# Altium footprint library libreriaPcb.PcbLib: 683 footprints (part 42 of 44)
Each footprint in its own frame and in the unit in brackets; x right, y up, seen from the top. Pads: shape width x height; smd on the part's side, far side on the other; paste and mask are expansions set on the pad; w line width, h text height; cw(c..) or ccw(c..) is an arc to the next point about the centre after c.
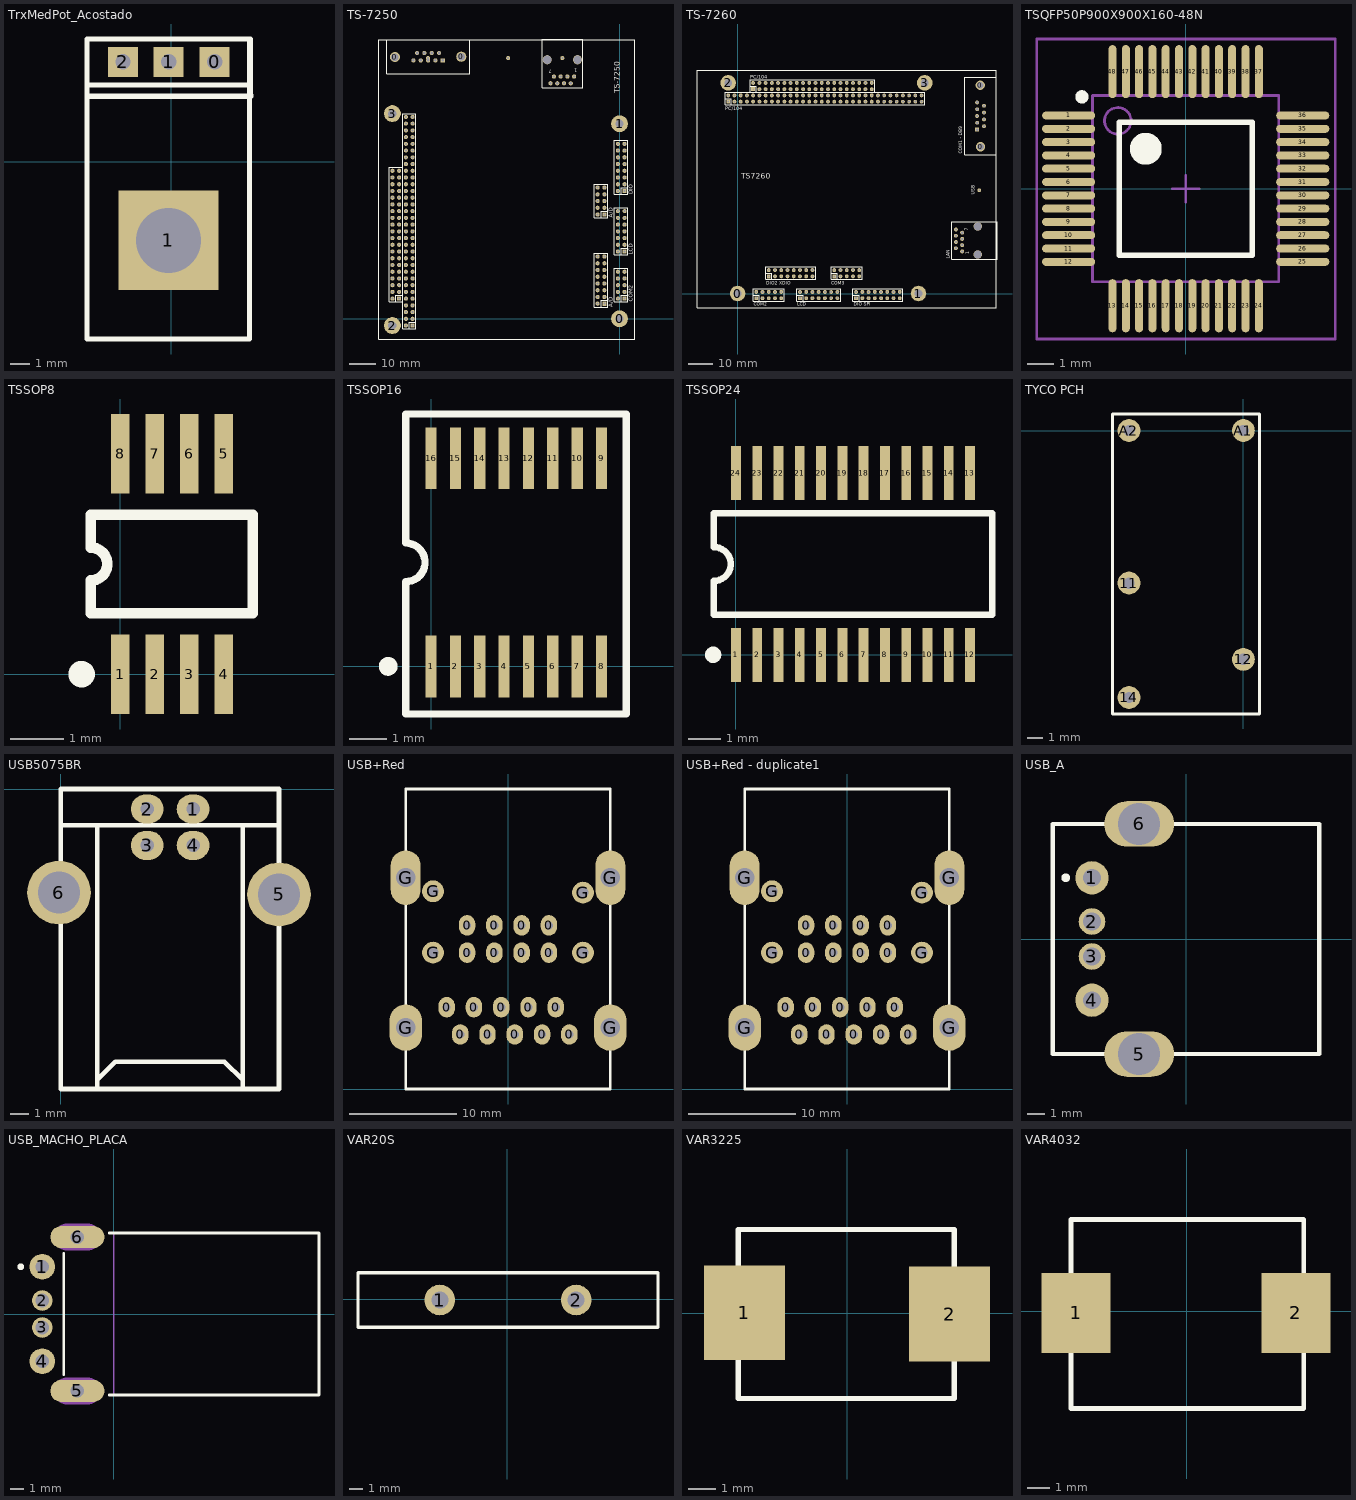
[diagram p41: the footprints below, top view; thin cyan lines are the x and y axes]

## TrxMedPot_Acostado [mm]
pads (4):
  rect 1.5x1.5 hole 0.762: 0(2.174,5.016) 1(-0.136,5.016) 2(-2.436,5.016)
  rect 5x5 hole 3.27: 1(-0.146,-3.951)
Top Overlay:
  lines w0.254: 3.918,6.156 3.918,-8.904 -4.23,-8.904 -4.23,6.156 ; -4.23,3.846 -4.23,6.156 ; -4.23,3.846 -4.23,3.536 -4.22,3.286 3.99,3.286 3.98,3.536 3.98,3.846 ; -4.23,3.846 3.98,3.846 ; -4.23,6.156 3.974,6.156 3.98,6.162 3.98,3.846
3D body: height 1, standoff 0, extent -0.625,2.35 0.375,5.35
3D body: height 1, standoff 0, extent 1.675,2.35 2.675,5.35
3D body: height 1, standoff 0, extent -2.925,2.35 -1.925,5.35
3D body: height 2, standoff 0, extent -4.088,-8.85 3.788,2.35
3D body: height 2.1, standoff 0, extent -2.146,-5.95 1.854,-1.951

## TS-7250 [mil]
pads (204):
  round 150 hole 110: 0(-3338,3890) 0(-2352,3895)
  round 250 hole 125: 0(0,0) 1(0,2900) 2(-3375,-100) 3(-3375,3050)
  rect 62x62 hole 28: 1(-3275,300) 1(-3075,-100) 1(-225,225) 1(-225,1550) 1(75,300) 1(75,1000) 1(75,1900)
  rect 62x62 hole 38: 1(-2627,3840)
  round 62 hole 35: 1(-675,3600) 2(-725,3500) 3(-775,3600) 4(-825,3500) 5(-875,3600) 6(-925,3500) 7(-975,3600) 8(-1025,3500)
  round 62 hole 28: 2(-3375,300) 2(-3175,-100) 2(-325,225) 2(-325,1550) 2(-25,300) 2(-25,1000) 2(-25,1900) 3(-3275,400) 3(-3075,0) 3(-225,325) 3(-225,1650) 3(75,400) 3(75,1100) 3(75,2000) 4(-3375,400) 4(-3175,0) 4(-325,325) 4(-325,1650) 4(-25,400) 4(-25,1100) 4(-25,2000) 5(-3275,500) 5(-3075,100) 5(-225,425) 5(-225,1750) 5(75,500) 5(75,1200) 5(75,2100) 6(-3375,500) 6(-3175,100) 6(-325,425) 6(-325,1750) 6(-25,500) 6(-25,1200) 6(-25,2100) 7(-3275,600) 7(-3075,200) 7(-225,525) 7(-225,1850) 7(75,600) 7(75,1300) 7(75,2200) 8(-3375,600) 8(-3175,200) 8(-325,525) 8(-325,1850) 8(-25,600) 8(-25,1300) 8(-25,2200) 9(-3275,700) 9(-3075,300) 9(-225,625) 9(-225,1950) 9(75,700) 9(75,1400) 9(75,2300) 10(-3375,700) 10(-3175,300) 10(-325,625) 10(-325,1950) 10(-25,700) 10(-25,1400) 10(-25,2300) 11(-3275,800) 11(-3075,400) 11(-225,725) 11(75,2400) 12(-3375,800) 12(-3175,400) 12(-325,725) 12(-25,2400) 13(-3275,900) 13(-3075,500) 13(-225,825) 13(75,2500) 14(-3375,900) 14(-3175,500) 14(-325,825) 14(-25,2500) 15(-3275,1000) 15(-3075,600) 15(-225,925) 15(75,2600) 16(-3375,1000) 16(-3175,600) 16(-325,925) 16(-25,2600) 17(-3275,1100) 17(-3075,700) 18(-3375,1100) 18(-3175,700) 19(-3275,1200) 19(-3075,800) 20(-3375,1200) 20(-3175,800) 21(-3275,1300) 21(-3075,900) 22(-3375,1300) 22(-3175,900) 23(-3275,1400) 23(-3075,1000) 24(-3375,1400) 24(-3175,1000) 25(-3275,1500) 25(-3075,1100) 26(-3375,1500) 26(-3175,1100) 27(-3275,1600) 27(-3075,1200) 28(-3375,1600) 28(-3175,1200) 29(-3275,1700) 29(-3075,1300) 30(-3375,1700) 30(-3175,1300) 31(-3275,1800) 31(-3075,1400) 32(-3375,1800) 32(-3175,1400) 33(-3275,1900) 33(-3075,1500) 34(-3375,1900) 34(-3175,1500) 35(-3275,2000) 35(-3075,1600) 36(-3375,2000) 36(-3175,1600) 37(-3275,2100) 37(-3075,1700) 38(-3375,2100) 38(-3175,1700) 39(-3275,2200) 39(-3075,1800) 40(-3375,2200) 40(-3175,1800) 41(-3075,1900) 42(-3175,1900) 43(-3075,2000) 44(-3175,2000) 45(-3075,2100) 46(-3175,2100) 47(-3075,2200) 48(-3175,2200) 49(-3075,2300) 50(-3175,2300)
  round 62 hole 38: 2(-2736,3840) 3(-2845,3840) 4(-2954,3840) 5(-3063,3840) 6(-2682,3950) 7(-2791,3950) 8(-2900,3950) 9(-3009,3950)
  round 60 hole 30: 4(75,300) 5(-225,225) 6(-225,1550) 7(75,1000) 8(75,1900) 11(75,1500) 12(-25,1500) 13(75,1600) 14(-25,1600) 15(-3075,-100) 16(-850,3875) 17(-1655,3875) 18(-2845,3875) 51(-3075,2400) 52(-3175,2400) 53(-3075,2500) 54(-3175,2500) 55(-3075,2600) 56(-3175,2600) 57(-3075,2700) 58(-3175,2700) 59(-3075,2800) 60(-3175,2800) 61(-3075,2900) 62(-3175,2900) 63(-3075,3000) 64(-3175,3000)
  round 135 hole 125: BO1(-625,3850) BO2(-1075,3850)
Top Overlay:
  lines w8: -3463,4150 -3463,3640 -2227,3640 ; -1150,3433.33 -1150,4158.33 -550,4158.33 -550,3433.33 -1150,3433.33
  lines w10: -3463,4150 -2227,4150 -2227,3640 ; -3575,-300 -3575,4150 225,4150 225,-300 -3575,-300
  lines w12: -3325,250 -3325,350 -3225,350 ; -3125,-150 -3125,-50 -3025,-50 ; -275,175 -275,275 -175,275 ; -275,1500 -275,1600 -175,1600 ; 25,250 25,350 125,350 ; 25,950 25,1050 125,1050 ; 25,1850 25,1950 125,1950 ; -3425,250 -3225,250 -3225,2250 -3425,2250 -3425,250 ; -3225,-150 -3225,3050 -3025,3050 -3025,-150 -3225,-150 ; -375,175 -175,175 -175,975 -375,975 -375,175 ; -375,1500 -175,1500 -175,2000 -375,2000 -375,1500 ; -75,250 125,250 125,750 -75,750 -75,250 ; -75,950 -75,1650 125,1650 125,950 -75,950 ; -75,1850 125,1850 125,2650 -75,2650 -75,1850
  text "A/D" at -100,175 h60
  text "7" at -1007.45,3701.06 h50
  text "1" at -627.16,3714.13 h50
  text "COM2" at 200,250 h60
  text "LCD" at 200,950 h60
  text "DIO" at 200,1850 h60
  text "A/D" at -100,1500 h60
  text "TS-7250" at 0,3350 h80

## TS-7260 [mil]
pads (202):
  round 250 hole 125: 0(0,0) 1(2900,0) 2(-150,3375) 3(3000,3375)
  round 150 hole 110: 0(3890,3338) 0(3895,2352)
  rect 62x62 hole 28: 1(-150,3075) 1(250,3275) 1(300,-75) 1(500,275) 1(1000,-75) 1(1550,275) 1(1900,-75)
  round 62 hole 35: 1(3600,675) 2(3500,725) 3(3600,775) 4(3500,825) 5(3600,875) 6(3500,925) 7(3600,975) 8(3500,1025)
  rect 62x62 hole 38: 1(3840,2627)
  round 62 hole 28: 2(-150,3175) 2(250,3375) 2(300,25) 2(500,375) 2(1000,25) 2(1550,375) 2(1900,25) 3(-50,3075) 3(350,3275) 3(400,-75) 3(600,275) 3(1100,-75) 3(1650,275) 3(2000,-75) 4(-50,3175) 4(350,3375) 4(400,25) 4(600,375) 4(1100,25) 4(1650,375) 4(2000,25) 5(50,3075) 5(450,3275) 5(500,-75) 5(700,275) 5(1200,-75) 5(1750,275) 5(2100,-75) 6(50,3175) 6(450,3375) 6(500,25) 6(700,375) 6(1200,25) 6(1750,375) 6(2100,25) 7(150,3075) 7(550,3275) 7(600,-75) 7(800,275) 7(1300,-75) 7(1850,275) 7(2200,-75) 8(150,3175) 8(550,3375) 8(600,25) 8(800,375) 8(1300,25) 8(1850,375) 8(2200,25) 9(250,3075) 9(650,3275) 9(700,-75) 9(900,275) 9(1400,-75) 9(1950,275) 9(2300,-75) 10(250,3175) 10(650,3375) 10(700,25) 10(900,375) 10(1400,25) 10(1950,375) 10(2300,25) 11(350,3075) 11(750,3275) 11(1000,275) 11(2400,-75) 12(350,3175) 12(750,3375) 12(1000,375) 12(2400,25) 13(450,3075) 13(850,3275) 13(1100,275) 13(2500,-75) 14(450,3175) 14(850,3375) 14(1100,375) 14(2500,25) 15(550,3075) 15(950,3275) 15(1200,275) 15(2600,-75) 16(550,3175) 16(950,3375) 16(1200,375) 16(2600,25) 17(650,3075) 17(1050,3275) 18(650,3175) 18(1050,3375) 19(750,3075) 19(1150,3275) 20(750,3175) 20(1150,3375) 21(850,3075) 21(1250,3275) 22(850,3175) 22(1250,3375) 23(950,3075) 23(1350,3275) 24(950,3175) 24(1350,3375) 25(1050,3075) 25(1450,3275) 26(1050,3175) 26(1450,3375) 27(1150,3075) 27(1550,3275) 28(1150,3175) 28(1550,3375) 29(1250,3075) 29(1650,3275) 30(1250,3175) 30(1650,3375) 31(1350,3075) 31(1750,3275) 32(1350,3175) 32(1750,3375) 33(1450,3075) 33(1850,3275) 34(1450,3175) 34(1850,3375) 35(1550,3075) 35(1950,3275) 36(1550,3175) 36(1950,3375) 37(1650,3075) 37(2050,3275) 38(1650,3175) 38(2050,3375) 39(1750,3075) 39(2150,3275) 40(1750,3175) 40(2150,3375) 41(1850,3075) 42(1850,3175) 43(1950,3075) 44(1950,3175) 45(2050,3075) 46(2050,3175) 47(2150,3075) 48(2150,3175) 49(2250,3075) 50(2250,3175)
  round 62 hole 38: 2(3840,2736) 3(3840,2845) 4(3840,2954) 5(3840,3063) 6(3950,2682) 7(3950,2791) 8(3950,2900) 9(3950,3009)
  round 60 hole 30: 4(300,-75) 5(500,275) 6(1550,275) 7(1000,-75) 8(1900,-75) 11(1500,-75) 12(1500,25) 13(1600,-75) 14(1600,25) 15(-150,3075) 17(3875,1655) 51(2350,3075) 52(2350,3175) 53(2450,3075) 54(2450,3175) 55(2550,3075) 56(2550,3175) 57(2650,3075) 58(2650,3175) 59(2750,3075) 60(2750,3175) 61(2850,3075) 62(2850,3175) 63(2950,3075) 64(2950,3175)
  round 135 hole 125: BO1(3850,625) BO2(3850,1075)
Top Overlay:
  lines w8: 3640,2227 3640,3463 4150,3463 ; 3433.33,550 3433.33,1150 4158.33,1150 4158.33,550 3433.33,550
  lines w10: 3640,2227 4150,2227 4150,3463 ; -650,-225 -650,3575 4150,3575 4150,-225 -650,-225
  lines w12: -200,3125 -100,3125 -100,3025 ; 200,3325 300,3325 300,3225 ; 250,-25 350,-25 350,-125 ; 450,325 550,325 550,225 ; 950,-25 1050,-25 1050,-125 ; 1500,325 1600,325 1600,225 ; 1850,-25 1950,-25 1950,-125 ; -200,3025 -200,3225 3000,3225 3000,3025 -200,3025 ; 200,3225 2200,3225 2200,3425 200,3425 200,3225 ; 250,-125 750,-125 750,75 250,75 250,-125 ; 450,225 1250,225 1250,425 450,425 450,225 ; 950,-125 950,75 1650,75 1650,-125 950,-125 ; 1500,225 2000,225 2000,425 1500,425 1500,225 ; 1850,-125 2650,-125 2650,75 1850,75 1850,-125
  text "TS7260" at 60,1840 h90
  text "DIO2 XDIO" at 460,140 h50
  text "LCD" at 960,-200 h50
  text "COM2" at 260,-200 h50
  text "1" at 3714.13,627.16 h50
  text "7" at 3701.06,1007.45 h50
  text "PC/104" at -200,2940 h60
  text "PC/104" at 200,3440 h60
  text "DIO SPI" at 1860,-200 h50
  text "COM3" at 1500,140 h50
  text "LAN" at 3400,560 h50
  text "USB" at 3800,1580 h50
  text "COM1 - DB9" at 3600,2240 h50

## TSQFP50P900X900X160-48N [mm] "TSQFP, 48-Leads, Body 9,1x9,1mm (max), Pitch 0,50mm, IPC Medium Density"
height 1.6
pads (48):
  oval 2x0.3 smd: 1(-4.4,2.75) 2(-4.4,2.25) 3(-4.4,1.75) 4(-4.4,1.25) 5(-4.4,0.75) 6(-4.4,0.25) 7(-4.4,-0.25) 8(-4.4,-0.75) 9(-4.4,-1.25) 10(-4.4,-1.75) 11(-4.4,-2.25) 12(-4.4,-2.75) 25(4.4,-2.75) 26(4.4,-2.25) 27(4.4,-1.75) 28(4.4,-1.25) 29(4.4,-0.75) 30(4.4,-0.25) 31(4.4,0.25) 32(4.4,0.75) 33(4.4,1.25) 34(4.4,1.75) 35(4.4,2.25) 36(4.4,2.75)
  oval 0.3x2 smd: 13(-2.75,-4.4) 14(-2.25,-4.4) 15(-1.75,-4.4) 16(-1.25,-4.4) 17(-0.75,-4.4) 18(-0.25,-4.4) 19(0.25,-4.4) 20(0.75,-4.4) 21(1.25,-4.4) 22(1.75,-4.4) 23(2.25,-4.4) 24(2.75,-4.4) 37(2.75,4.4) 38(2.25,4.4) 39(1.75,4.4) 40(1.25,4.4) 41(0.75,4.4) 42(0.25,4.4) 43(-0.25,4.4) 44(-0.75,4.4) 45(-1.25,4.4) 46(-1.75,4.4) 47(-2.25,4.4) 48(-2.75,4.4)
Top Overlay:
  circle w0.6: c-1.5,1.5 r0.3
  circle w0.25: c-3.9,3.45 r0.125
  lines w0.2: -2.5,-2.5 2.5,-2.5 2.5,2.5 -2.5,2.5 -2.5,-2.5
Mechanical 13:
  circle w0.1: c-2.55,2.55 r0.5
  lines w0.1: -3.5,-3.5 3.5,-3.5 3.5,3.5 -3.5,3.5 -3.5,-3.5
Mechanical 15:
  lines w0.1: -0.5,0 0.5,0 ; 0,-0.5 0,0.5 ; -5.6,-5.65 5.625,-5.65 5.625,5.625 -5.6,5.625 -5.6,-5.65
3D body: height 1.6, standoff 0.25, extent -3.5,-3.5 3.5,3.5

## TSSOP8 [mm]
height 4
pads (8):
  rect 0.35x1.5 smd: 1(0,0) 2(0.65,0) 3(1.3,0) 4(1.95,0) 5(1.95,4.15) 6(1.3,4.15) 7(0.65,4.15) 8(0,4.15)
Top Overlay:
  circle w0.25: c-0.725,0 r0.125
  lines w0.2: -0.55,1.15 -0.55,1.767 ccw(c-0.55,2.075) -0.55,2.383 -0.55,3 2.5,3 2.5,1.15 -0.55,1.15

## TSSOP16 [mm]
pads (16):
  rect 0.3x1.65 smd: 1(0,0) 2(0.65,0) 3(1.3,0) 4(1.95,0) 5(2.6,0) 6(3.25,0) 7(3.9,0) 8(4.55,0) 9(4.55,5.55) 10(3.9,5.55) 11(3.25,5.55) 12(2.6,5.55) 13(1.95,5.55) 14(1.3,5.55) 15(0.65,5.55) 16(0,5.55)
Top Overlay:
  circle w0.25: c-1.143,0 r0.125
  lines w0.2: -0.675,2.258 ccw(c-0.675,2.775) -0.675,3.292 ; -0.675,2.258 -0.675,-1.27 5.207,-1.27 5.207,6.731 -0.675,6.731 -0.675,3.292
3D body: height 3, standoff 0.5, extent -0.254,0.508 4.826,5.08

## TSSOP24 [mm]
pads (24):
  rect 0.3x1.65 smd: 1(0,0) 2(0.65,0) 3(1.3,0) 4(1.95,0) 5(2.6,0) 6(3.25,0) 7(3.9,0) 8(4.55,0) 9(5.2,0) 10(5.85,0) 11(6.5,0) 12(7.15,0) 13(7.15,5.55) 14(6.5,5.55) 15(5.85,5.55) 16(5.2,5.55) 17(4.55,5.55) 18(3.9,5.55) 19(3.25,5.55) 20(2.6,5.55) 21(1.95,5.55) 22(1.3,5.55) 23(0.65,5.55) 24(0,5.55)
Top Overlay:
  circle w0.25: c-0.7,0 r0.125
  lines w0.2: -0.675,2.258 ccw(c-0.675,2.775) -0.675,3.292 ; -0.675,2.258 -0.675,1.225 7.825,1.225 7.825,4.325 -0.675,4.325 -0.675,3.292

## TYCO PCH [mil]
pads (5):
  round 60 hole 30: 11(-300,-400) 12(0,-600) 14(-300,-700) A1(0,0) A2(-300,0)
Top Overlay:
  lines w7.87: -343.31,-743.31 -343.31,-600 -343.31,0 -343.31,43.11 0,43.31 42.32,43.11 42.32,-743.31 -343.31,-743.31

## USB5075BR [mm]
pads (6):
  oval 1.8x1.6 hole 0.75: 1(7.274,-1.1) 2(4.75,-1.1) 3(4.75,-3.1) 4(7.274,-3.1)
  round 3.5 hole 2.3: 5(12,-5.8) 6(-0.1,-5.7)
Top Overlay:
  lines w0.254: 0,-2 2,-2 ; 12,-2 10,-2 ; 2,-2 10,-2 ; 2,-2 2,-16.5 2,-16 3,-15 9,-15 10,-16 10,-16.5 10,-2 ; 0,-16.5 12,-16.5 12,0 0,0 0,-16.5

## USB+Red [mil]
pads (26):
  oval 60x75 hole 30: 0(-225,300) 0(-175,200) 0(-150,500) 0(-150,600) 0(-125,300) 0(-75,200) 0(-50,500) 0(-50,600) 0(-25,300) 0(25,200) 0(50,500) 0(50,600) 0(75,300) 0(125,200) 0(150,500) 0(150,600) 0(175,300) 0(225,200)
  oval 120x170 hole 70: G(-375,225) G(375,225)
  oval 110x200 hole 70: G(-375,775) G(375,775)
  round 80 hole 40: G(-275,500) G(-275,725) G(275,500) G(275,720)
Top Overlay:
  lines w10: -375,0 375,0 375,1100 -375,1100 -375,0

## USB+Red - duplicate1 [mil]
pads (26):
  oval 60x75 hole 30: 0(-225,300) 0(-175,200) 0(-150,500) 0(-150,600) 0(-125,300) 0(-75,200) 0(-50,500) 0(-50,600) 0(-25,300) 0(25,200) 0(50,500) 0(50,600) 0(75,300) 0(125,200) 0(150,500) 0(150,600) 0(175,300) 0(225,200)
  oval 120x170 hole 70: G(-375,225) G(375,225)
  oval 110x200 hole 70: G(-375,775) G(375,775)
  round 80 hole 40: G(-275,500) G(-275,725) G(275,500) G(275,720)
Top Overlay:
  lines w10: -375,0 375,0 375,1100 -375,1100 -375,0

## USB_A [mm] "Connector; USB1.1, Type A, SM; 4 Position; Right Angle"
height 4.5
pads (6):
  round 1.905 hole 1.016: 1(-5.4,3.5) 4(-5.4,-3.5)
  round 1.524 hole 1.016: 2(-5.4,1) 3(-5.4,-1)
  oval 4x2.6 hole 2.4: 5(-2.7,-6.575) 6(-2.7,6.575)
Top Overlay:
  circle w0.25: c-6.9,3.5 r0.125
  lines w0.254: -7.65,-6.575 -7.65,6.575 7.6,6.575 7.6,-6.575 -7.65,-6.575
3D body: height 6.9, standoff 0.5, extent -5.7,-6.55 7.575,6.575

## USB_MACHO_PLACA [mm] "Connector; USB1.1, Type A, SM; 4 Position; Right Angle"
height 4.5
pads (6):
  round 1.905 hole 1.016: 1(-5.3,3.5) 4(-5.3,-3.5)
  round 1.524 hole 1.016: 2(-5.3,1) 3(-5.3,-1)
  oval 4x1.65 hole 1: 5(-2.7,-5.7) 6(-2.7,5.7)
Top Overlay:
  circle w0.25: c-6.9,3.5 r0.125
  lines w0.2: -3.7,-4.475 -3.7,4.475 ; -0.33,-6 15.2,-6 15.2,6 -0.33,6
Mechanical 1:
  lines w0.1: 0,-6 0,6
  lines w1: -3.45,-5.7 -1.95,-5.7 ; -3.45,5.7 -1.95,5.7
  text "Mech 2 - Clearance, move to internal plane if present" at -1,6.676 h0.3
  text "Mech 1 - Slot cut-out" at -1,7.176 h0.3
  text "Assign keep-out area to slot" at -1,8.676 h0.3
  text "Slot 1x2.5mm, PTH" at -1,7.676 h0.3
  text "Alert PCB fab to slot details" at -1,8.176 h0.3
  text "PCB Edge" at 0.473,-5.173 h0.25
Mechanical 2:
  lines w2.016: -3.45,-5.7 -1.95,-5.7 ; -3.45,5.7 -1.95,5.7

## VAR20S [mm]
pads (2):
  round 2.25 hole 1.25: 1(-4.95,-0.05) 2(5.05,-0.05)
Top Overlay:
  region: -8.475,-4.1
  lines w0.254: -10.95,-2.05 -10.95,1.95 11.05,1.95 11.05,-2.05 -10.95,-2.05
3D body: height 3, standoff 0, extent 4.451,-0.645 5.649,0.55
3D body: height 3, standoff 0, extent -5.549,-0.645 -4.351,0.55
3D body: height 23.98, standoff 2.02, extent -10.916,-1.85 10.997,1.95

## VAR3225 [mm]
pads (2):
  rect 3x3.5 smd: 1(-3.8,0.025) 2(3.8,-0.025)
Top Overlay:
  lines w0.2: -4.021,-3.15 3.975,-3.15 3.975,3.1 -4.021,3.1 -4.021,-3.15
3D body: height 2.2, standoff 0, extent 3.975,-1.8 4.275,1.75
3D body: height 2.3, standoff 0, extent -4,-3.15 3.975,3.075
3D body: height 2.2, standoff 0, extent -4.325,-1.75 -4.025,1.8

## VAR4032 [mm]
pads (2):
  rect 3x3.5 smd: 1(-4.825,-0.075) 2(4.775,-0.075)
Top Overlay:
  lines w0.2: -5.046,-4.25 5.125,-4.25 5.125,4 -5.046,4 -5.046,-4.25
3D body: height 2.2, standoff 0, extent 5.125,-1.825 5.425,1.725
3D body: height 2.3, standoff 0, extent -5.05,-4.25 5.125,4
3D body: height 2.2, standoff 0, extent -5.35,-1.85 -5.05,1.7